# Altium schematic symbol library IPB044N15N5ATMA1.SchLib: 1 symbol
Pins are listed as number, name and electrical type; pins without a type are passive.

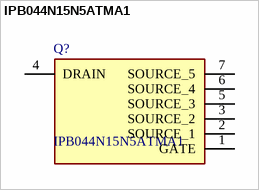
[diagram p0: symbol IPB044N15N5ATMA1]

## IPB044N15N5ATMA1
designator Q?
INFINEON - IPB044N15N5ATMA1 - Power MOSFET, N Channel, 150 V, 174 A, 0.0034 ohm, TO-263 (D2PAK), Surface Mount; Geometry.Height: 4.82mm; Mouser Part Number: 726-IPB044N15N5ATMA1; Mouser Price/Stock: https://www.mouser.co.uk/ProductDetail/Infineon-Technologies/IPB044N15N5ATMA1?qs=Qyx3PVvfm67H4xBXADYxng%3D%3D; Manufacturer_Name: Infineon; Manufacturer_Part_Number: IPB044N15N5ATMA1; Datasheet Link: https://www.infineon.com/dgdl/Infineon-IPB044N15N5-DS-v02_00-EN.pdf?fileId=5546d462576f347501576ffd3e582757
footprint IPB044N15N5ATMA1
pins: 1 GATE, 2 SOURCE_1, 3 SOURCE_2, 4 DRAIN, 5 SOURCE_3, 6 SOURCE_4, 7 SOURCE_5